# EAGLE library part ZX62R-AB-5P (library hirose-zx)
Micro USB Connector HI-SPEED Certified Source: https://www.hirose.co.jp/catalogj_hp/jd_ZX_20140305.pdf
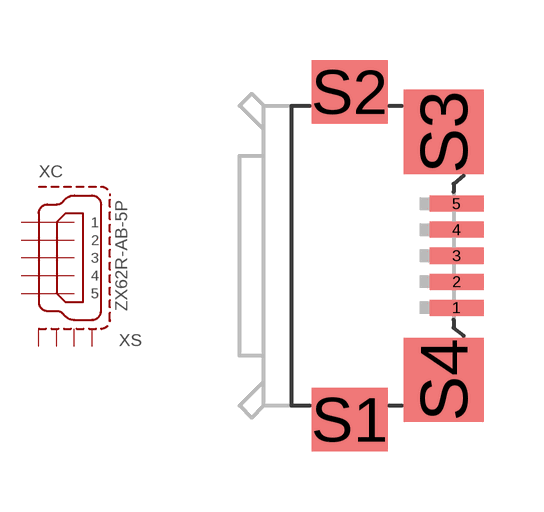
[diagram p5: symbol with the pads of ZX62R-AB-5P; footprint ZX62R-AB-5P]

Designator prefix X; gates C=MICRO-USB S=SHIELD-4

## ZX62R-AB-5P  [ZX62R-AB-5P]
1  C:1  pwr
2  C:2  out
3  C:3
4  C:4  pas
5  C:5  pwr
S1  S:S1  pas
S2  S:S2  pas
S3  S:S3  pas
S4  S:S4  pas

## Footprint ZX62R-AB-5P (pad centres in mm)
smd 1.35 x 0.4: 1 2.675,-1.3; 2 2.675,-0.65; 3 2.675,0; 4 2.675,0.65; 5 2.675,1.3
smd 1.9 x 1.6: S1 0,-4.1; S2 0,4.1
smd 2 x 2.1: S3 2.35,3.1; S4 2.35,-3.1